# Altium schematic symbol library SamacSys_Parts v1.SCHLIB: 3 symbols
Pins are listed as number, name and electrical type; pins without a type are passive.

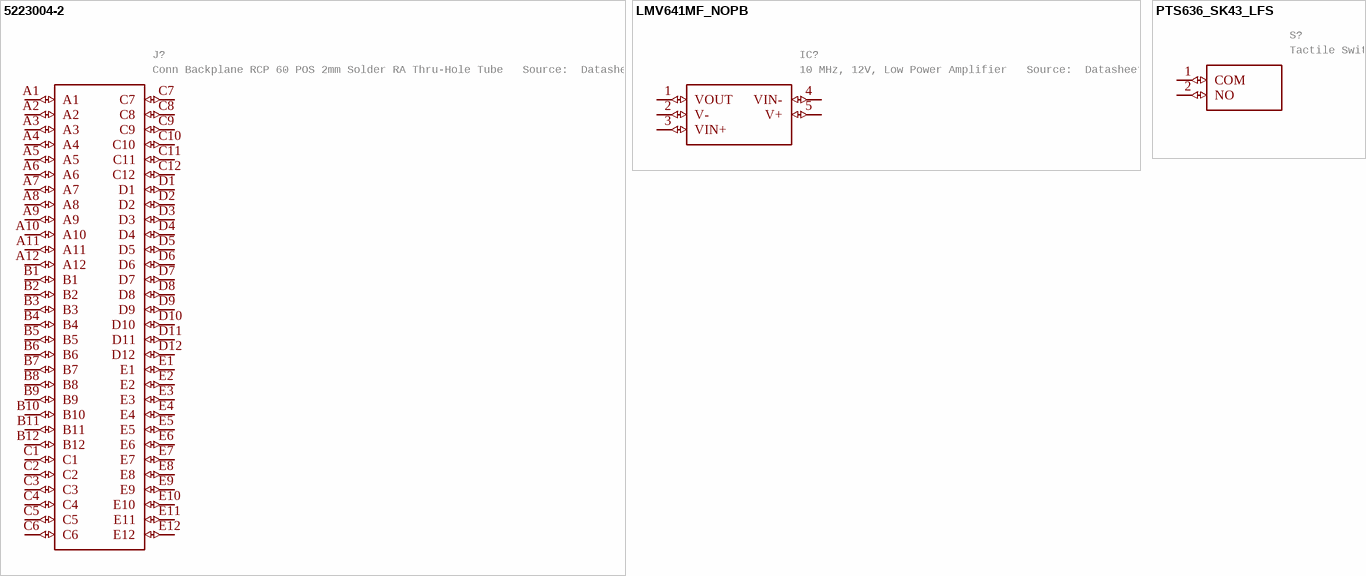
[diagram p0: symbols 5223004-2 to PTS636_SK43_LFS]

## 5223004-2
designator J?, comment Conn Backplane RCP 60 POS 2mm Solder RA Thru-Hole Tube   Source:  Datasheet
MANUFACTURER_NAME: TE Connectivity; GateName_1: G$1; SymbolName_1: 5223004-2; LibraryName: SamacSys_Parts v1; DeviceSetName: 5223004-2; Package: 52230042; DESCRIPTION: Conn Backplane RCP 60 POS 2mm Solder RA Thru-Hole Tube; HEIGHT: 14mm; MANUFACTURER_PART_NUMBER: 5223004-2; MOUSER_PART_NUMBER: 571-5223004-2; MOUSER_PRICE-STOCK: https://www.mouser.co.uk/ProductDetail/TE-Connectivity/5223004-2?qs=oNRo%252BTjlpTO6tP0xSX%252BI3w%3D%3D
footprint 52230042
pins: A1 (io), A2 (io), A3 (io), A4 (io), A5 (io), A6 (io), A7 (io), A8 (io), A9 (io), A10 (io), A11 (io), A12 (io), B1 (io), B2 (io), B3 (io), B4 (io), B5 (io), B6 (io), B7 (io), B8 (io), B9 (io), B10 (io), B11 (io), B12 (io), C1 (io), C2 (io), C3 (io), C4 (io), C5 (io), C6 (io), C7 (io), C8 (io), C9 (io), C10 (io), C11 (io), C12 (io), D1 (io), D2 (io), D3 (io), D4 (io), D5 (io), D6 (io), D7 (io), D8 (io), D9 (io), D10 (io), D11 (io), D12 (io), E1 (io), E2 (io), E3 (io), E4 (io), E5 (io), E6 (io), E7 (io), E8 (io), E9 (io), E10 (io), E11 (io), E12 (io)

## LMV641MF_NOPB
designator IC?, comment 10 MHz, 12V, Low Power Amplifier   Source:  Datasheet
MANUFACTURER_NAME: Texas Instruments; MANUFACTURER_PART_NUMBER: LMV641MF/NOPB; GateName_1: G$1; SymbolName_1: LMV641MF_NOPB; LibraryName: SamacSys_Parts v1; DeviceSetName: LMV641MF_NOPB; Package: SOT95P280X145-5N; DESCRIPTION: 10 MHz, 12V, Low Power Amplifier; HEIGHT: 1.45mm; MOUSER_PART_NUMBER: 595-LMV641MF/NOPB; MOUSER_PRICE-STOCK: https://www.mouser.com/Search/Refine.aspx?Keyword=595-LMV641MF%2FNOPB
footprint SOT95P280X145-5N
pins: 1 VOUT (io), 2 V- (io), 3 VIN+ (io), 4 VIN- (io), 5 V+ (io)

## PTS636_SK43_LFS
designator S?, comment Tactile Switches Tact 50mA 12VDC, 6.0x3.5, 4.3mm H, 250gf, THT leads, Black Actuator   Source:  Datasheet
MANUFACTURER_NAME: C & K COMPONENTS; MANUFACTURER_PART_NUMBER: PTS636 SK43 LFS; GateName_1: G$1; SymbolName_1: PTS636_SK43_LFS; LibraryName: SamacSys_Parts v1; DeviceSetName: PTS636_SK43_LFS; Package: PTS636SK43LFS; DESCRIPTION: Tactile Switches Tact 50mA 12VDC, 6.0x3.5, 4.3mm H, 250gf, THT leads, Black Actuator; HEIGHT: 4.5mm; MOUSER_PART_NUMBER: 611-PTS636SK43LFS; MOUSER_PRICE-STOCK: https://www.mouser.co.uk/ProductDetail/CK/PTS636-SK43-LFS?qs=vLWxofP3U2yMiQldG7jfnQ%3D%3D
footprint PTS636SK43LFS
pins: 1 COM (io), 2 NO (io)